# Altium schematic symbol library con-stocko.SCHLIB: 18 symbols
Pins are listed as number, name and electrical type; pins without a type are passive.

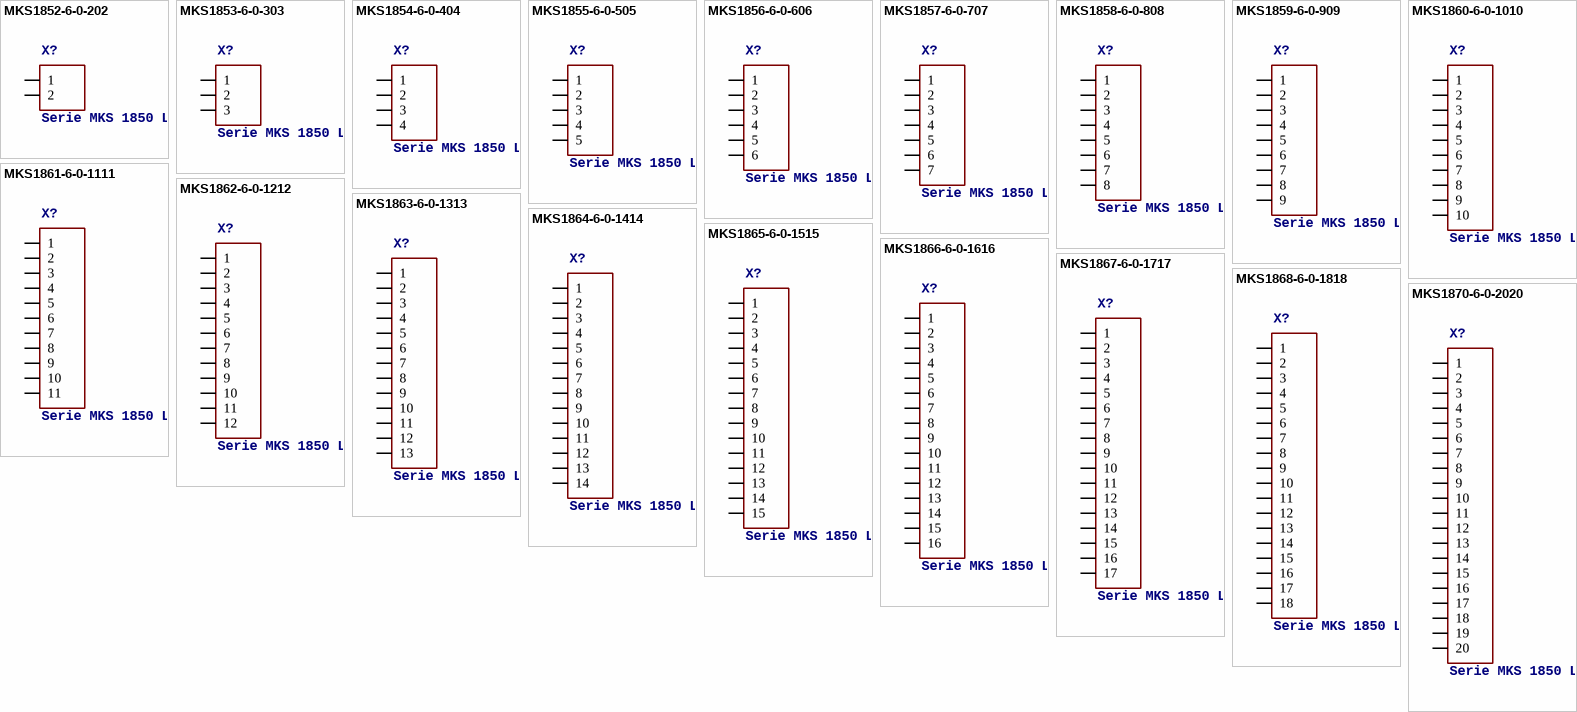
[diagram p0: symbols MKS1852-6-0-202 to MKS1870-6-0-2020]

## MKS1852-6-0-202
designator X?, comment Serie MKS 1850 Lötstifte In-line, Raster 2.5 mm, Stiftwannen, stehend, mit Rastlasche   Source: http://www.stocko.de/de/index.php?seite=ka_rfk2_mks1850.html&rubrik=Katalog+-+RFK+2 rfk_1850.pdf
OC_FARNELL: unknown; OC_NEWARK: unknown
footprint MKS1852-6-0-202
pins: 1, 2

## MKS1853-6-0-303
designator X?, comment Serie MKS 1850 Lötstifte In-line, Raster 2.5 mm, Stiftwannen, stehend, mit Rastlasche   Source: http://www.stocko.de/de/index.php?seite=ka_rfk2_mks1850.html&rubrik=Katalog+-+RFK+2 rfk_1850.pdf
OC_FARNELL: 1141861; OC_NEWARK: unknown
footprint MKS1853-6-0-303
pins: 1, 2, 3

## MKS1854-6-0-404
designator X?, comment Serie MKS 1850 Lötstifte In-line, Raster 2.5 mm, Stiftwannen, stehend, mit Rastlasche   Source: http://www.stocko.de/de/index.php?seite=ka_rfk2_mks1850.html&rubrik=Katalog+-+RFK+2 rfk_1850.pdf
OC_FARNELL: 1141862; OC_NEWARK: unknown
footprint MKS1854-6-0-404
pins: 1, 2, 3, 4

## MKS1855-6-0-505
designator X?, comment Serie MKS 1850 Lötstifte In-line, Raster 2.5 mm, Stiftwannen, stehend, mit Rastlasche   Source: http://www.stocko.de/de/index.php?seite=ka_rfk2_mks1850.html&rubrik=Katalog+-+RFK+2 rfk_1850.pdf
OC_FARNELL: 1134508; OC_NEWARK: unknown
footprint MKS1855-6-0-505
pins: 1, 2, 3, 4, 5

## MKS1856-6-0-606
designator X?, comment Serie MKS 1850 Lötstifte In-line, Raster 2.5 mm, Stiftwannen, stehend, mit Rastlasche   Source: http://www.stocko.de/de/index.php?seite=ka_rfk2_mks1850.html&rubrik=Katalog+-+RFK+2 rfk_1850.pdf
OC_FARNELL: 1174959; OC_NEWARK: unknown
footprint MKS1856-6-0-606
pins: 1, 2, 3, 4, 5, 6

## MKS1857-6-0-707
designator X?, comment Serie MKS 1850 Lötstifte In-line, Raster 2.5 mm, Stiftwannen, stehend, mit Rastlasche   Source: http://www.stocko.de/de/index.php?seite=ka_rfk2_mks1850.html&rubrik=Katalog+-+RFK+2 rfk_1850.pdf
OC_FARNELL: unknown; OC_NEWARK: unknown
footprint MKS1857-6-0-707
pins: 1, 2, 3, 4, 5, 6, 7

## MKS1858-6-0-808
designator X?, comment Serie MKS 1850 Lötstifte In-line, Raster 2.5 mm, Stiftwannen, stehend, mit Rastlasche   Source: http://www.stocko.de/de/index.php?seite=ka_rfk2_mks1850.html&rubrik=Katalog+-+RFK+2 rfk_1850.pdf
OC_FARNELL: unknown; OC_NEWARK: unknown
footprint MKS1858-6-0-808
pins: 1, 2, 3, 4, 5, 6, 7, 8

## MKS1859-6-0-909
designator X?, comment Serie MKS 1850 Lötstifte In-line, Raster 2.5 mm, Stiftwannen, stehend, mit Rastlasche   Source: http://www.stocko.de/de/index.php?seite=ka_rfk2_mks1850.html&rubrik=Katalog+-+RFK+2 rfk_1850.pdf
OC_FARNELL: unknown; OC_NEWARK: unknown
footprint MKS1859-6-0-909
pins: 1, 2, 3, 4, 5, 6, 7, 8, 9

## MKS1860-6-0-1010
designator X?, comment Serie MKS 1850 Lötstifte In-line, Raster 2.5 mm, Stiftwannen, stehend, mit Rastlasche   Source: http://www.stocko.de/de/index.php?seite=ka_rfk2_mks1850.html&rubrik=Katalog+-+RFK+2 rfk_1850.pdf
OC_FARNELL: unknown; OC_NEWARK: unknown
footprint MKS1860-6-0-1010
pins: 1, 2, 3, 4, 5, 6, 7, 8, 9, 10

## MKS1861-6-0-1111
designator X?, comment Serie MKS 1850 Lötstifte In-line, Raster 2.5 mm, Stiftwannen, stehend, mit Rastlasche   Source: http://www.stocko.de/de/index.php?seite=ka_rfk2_mks1850.html&rubrik=Katalog+-+RFK+2 rfk_1850.pdf
OC_FARNELL: unknown; OC_NEWARK: unknown
footprint MKS1861-6-0-1111
pins: 1, 2, 3, 4, 5, 6, 7, 8, 9, 10, 11

## MKS1862-6-0-1212
designator X?, comment Serie MKS 1850 Lötstifte In-line, Raster 2.5 mm, Stiftwannen, stehend, mit Rastlasche   Source: http://www.stocko.de/de/index.php?seite=ka_rfk2_mks1850.html&rubrik=Katalog+-+RFK+2 rfk_1850.pdf
OC_FARNELL: unknown; OC_NEWARK: unknown
footprint MKS1862-6-0-1212
pins: 1, 2, 3, 4, 5, 6, 7, 8, 9, 10, 11, 12

## MKS1863-6-0-1313
designator X?, comment Serie MKS 1850 Lötstifte In-line, Raster 2.5 mm, Stiftwannen, stehend, mit Rastlasche   Source: http://www.stocko.de/de/index.php?seite=ka_rfk2_mks1850.html&rubrik=Katalog+-+RFK+2 rfk_1850.pdf
OC_FARNELL: unknown; OC_NEWARK: unknown
footprint MKS1863-6-0-1313
pins: 1, 2, 3, 4, 5, 6, 7, 8, 9, 10, 11, 12, 13

## MKS1864-6-0-1414
designator X?, comment Serie MKS 1850 Lötstifte In-line, Raster 2.5 mm, Stiftwannen, stehend, mit Rastlasche   Source: http://www.stocko.de/de/index.php?seite=ka_rfk2_mks1850.html&rubrik=Katalog+-+RFK+2 rfk_1850.pdf
OC_FARNELL: unknown; OC_NEWARK: unknown
footprint MKS1864-6-0-1414
pins: 1, 2, 3, 4, 5, 6, 7, 8, 9, 10, 11, 12, 13, 14

## MKS1865-6-0-1515
designator X?, comment Serie MKS 1850 Lötstifte In-line, Raster 2.5 mm, Stiftwannen, stehend, mit Rastlasche   Source: http://www.stocko.de/de/index.php?seite=ka_rfk2_mks1850.html&rubrik=Katalog+-+RFK+2 rfk_1850.pdf
OC_FARNELL: unknown; OC_NEWARK: unknown
footprint MKS1865-6-0-1515
pins: 1, 2, 3, 4, 5, 6, 7, 8, 9, 10, 11, 12, 13, 14, 15

## MKS1866-6-0-1616
designator X?, comment Serie MKS 1850 Lötstifte In-line, Raster 2.5 mm, Stiftwannen, stehend, mit Rastlasche   Source: http://www.stocko.de/de/index.php?seite=ka_rfk2_mks1850.html&rubrik=Katalog+-+RFK+2 rfk_1850.pdf
OC_FARNELL: unknown; OC_NEWARK: unknown
footprint MKS1866-6-0-1616
pins: 1, 2, 3, 4, 5, 6, 7, 8, 9, 10, 11, 12, 13, 14, 15, 16

## MKS1867-6-0-1717
designator X?, comment Serie MKS 1850 Lötstifte In-line, Raster 2.5 mm, Stiftwannen, stehend, mit Rastlasche   Source: http://www.stocko.de/de/index.php?seite=ka_rfk2_mks1850.html&rubrik=Katalog+-+RFK+2 rfk_1850.pdf
OC_FARNELL: unknown; OC_NEWARK: unknown
footprint MKS1867-6-0-1717
pins: 1, 2, 3, 4, 5, 6, 7, 8, 9, 10, 11, 12, 13, 14, 15, 16, 17

## MKS1868-6-0-1818
designator X?, comment Serie MKS 1850 Lötstifte In-line, Raster 2.5 mm, Stiftwannen, stehend, mit Rastlasche   Source: http://www.stocko.de/de/index.php?seite=ka_rfk2_mks1850.html&rubrik=Katalog+-+RFK+2 rfk_1850.pdf
OC_FARNELL: unknown; OC_NEWARK: unknown
footprint MKS1868-6-0-1818
pins: 1, 2, 3, 4, 5, 6, 7, 8, 9, 10, 11, 12, 13, 14, 15, 16, 17, 18

## MKS1870-6-0-2020
designator X?, comment Serie MKS 1850 Lötstifte In-line, Raster 2.5 mm, Stiftwannen, stehend, mit Rastlasche   Source: http://www.stocko.de/de/index.php?seite=ka_rfk2_mks1850.html&rubrik=Katalog+-+RFK+2 rfk_1850.pdf
OC_FARNELL: unknown; OC_NEWARK: unknown
footprint MKS1870-6-0-2020
pins: 1, 2, 3, 4, 5, 6, 7, 8, 9, 10, 11, 12, 13, 14, 15, 16, 17, 18, 19, 20